# Altium footprint library 5A_BRULA,Tomas.PcbLib: 94 footprints (part 4 of 6)
Each footprint in its own frame and in the unit in brackets; x right, y up, seen from the top. Pads: shape width x height; smd on the part's side, far side on the other; paste and mask are expansions set on the pad; w line width, h text height; cw(c..) or ccw(c..) is an arc to the next point about the centre after c.
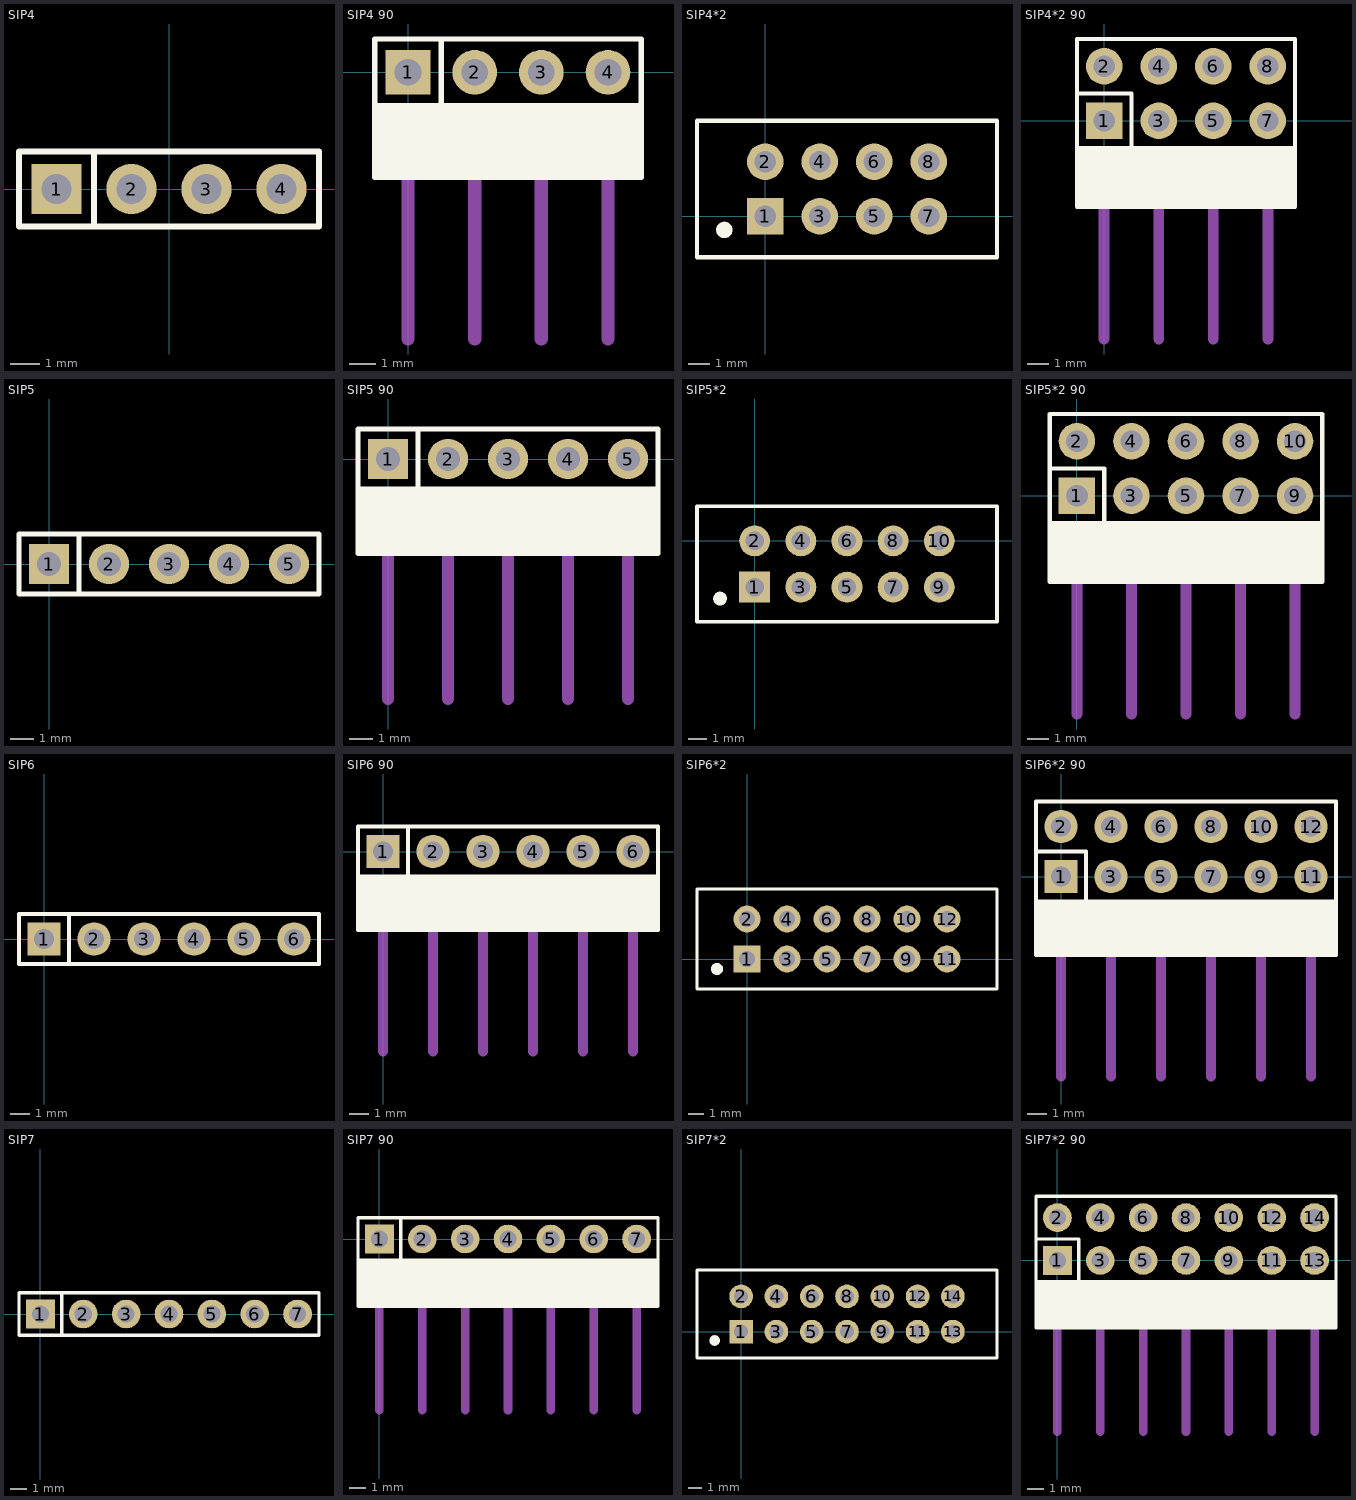
[diagram p3: the footprints below, top view; thin cyan lines are the x and y axes]

## SIP4 [mm]
pads (4):
  rect 1.7x1.7 hole 1.016: 1(-3.81,0)
  round 1.7 hole 1.016: 2(-1.27,0) 3(1.27,0) 4(3.81,0)
Top Overlay:
  lines w0.2: -2.54,-1.27 -2.54,1.27 ; -5.08,-1.27 5.08,-1.27 5.08,1.27 -5.08,1.27 -5.08,-1.27
3D body "SIP4.step": height 8.38, standoff -2.54, extent -5.08,-1.27 5.08,1.27

## SIP4 90 [mm]
pads (4):
  rect 1.7x1.7 hole 1.016: 1(0,0)
  round 1.7 hole 1.016: 2(2.54,0) 3(5.08,0) 4(7.62,0)
Top Overlay:
  rectangle: 6.35,-4 8.89,-1.27
  rectangle: 3.81,-4 6.35,-1.27
  rectangle: 1.27,-4 3.81,-1.27
  rectangle: -1.27,-4 1.27,-1.27
  lines w0.2: 1.27,1.27 1.27,-1.27 ; -1.27,-1.27 -1.27,-4 1.27,-4 ; -1.27,-1.27 -1.27,1.27 8.89,1.27 8.89,-1.27 ; -1.27,-1.27 8.89,-1.27 ; 1.27,-4 3.81,-4 ; 1.27,-4 1.27,-1.27 ; 1.27,-4 1.27,-1.27 ; 3.81,-4 6.35,-4 ; 3.81,-4 3.81,-1.27 3.81,-4 ; 6.35,-4 8.89,-4 8.89,-1.27 ; 6.35,-4 6.35,-1.27 6.35,-4
Mechanical 1:
  lines w0.508: 0,-10.16 0,-4.064 ; 2.54,-10.16 2.54,-4.064 ; 5.08,-10.16 5.08,-4.064 ; 7.62,-10.16 7.62,-4.064
3D body "User Library-m0003083.step": height 3.76, standoff -4.72, extent -1.27,-9.938 3.81,0.286
3D body "User Library-m0003083.step": height 3.76, standoff -4.72, extent 3.81,-9.938 8.89,0.286

## SIP4*2 [mm]
pads (8):
  rect 1.7x1.7 hole 1.016: 1(0,0)
  round 1.7 hole 1.016: 2(0,2.54) 3(2.54,0) 4(2.54,2.54) 5(5.08,0) 6(5.08,2.54) 7(7.62,0) 8(7.62,2.54)
Top Overlay:
  circle w0.254: c-1.993,-0.635 r0.125
  circle w0.254: c-1.905,-0.635 r0.254
  lines w0.2: -3.175,-1.905 10.795,-1.905 10.795,4.445 -3.175,4.445 -3.175,-1.905
3D body "SIP3_2.step": height 10.1, standoff -1.5, extent -1.262,-1.295 6.358,3.785
3D body "SIP3_2.step": height 10.1, standoff -1.5, extent 1.278,-1.295 8.898,3.785

## SIP4*2 90 [mm]
pads (8):
  rect 1.7x1.7 hole 1.016: 1(0,0)
  round 1.7 hole 1.016: 2(0,2.54) 3(2.54,0) 4(2.54,2.54) 5(5.08,0) 6(5.08,2.54) 7(7.62,0) 8(7.62,2.54)
Top Overlay:
  rectangle: 6.35,-4 8.89,-1.27
  rectangle: 3.81,-4 6.35,-1.27
  rectangle: 1.27,-4 3.81,-1.27
  rectangle: -1.27,-4 1.27,-1.27
  lines w0.2: -1.27,1.27 1.27,1.27 1.27,-1.27 ; -1.27,-1.27 -1.27,-4 1.27,-4 ; -1.27,-1.27 8.89,-1.27 ; -1.27,-1.27 -1.27,3.81 8.89,3.81 8.89,-1.27 ; 1.27,-4 3.81,-4 ; 1.27,-4 1.27,-1.27 ; 1.27,-4 1.27,-1.27 ; 3.81,-4 6.35,-4 ; 3.81,-4 3.81,-1.27 3.81,-4 ; 6.35,-4 8.89,-4 8.89,-1.27 ; 6.35,-4 6.35,-1.27 6.35,-4
Mechanical 1:
  lines w0.508: 0,-10.16 0,-4.064 ; 2.54,-10.16 2.54,-4.064 ; 5.08,-10.16 5.08,-4.064 ; 7.62,-10.16 7.62,-4.064
3D body "pin_header_awl254-da-g04d.stp": height 5.1, standoff -2.9, extent -1.27,-9.996 3.81,2.884
3D body "pin_header_awl254-da-g04d.stp": height 5.1, standoff -2.9, extent 3.81,-9.996 8.89,2.884

## SIP5 [mm]
pads (5):
  rect 1.7x1.7 hole 1.016: 1(0,0)
  round 1.7 hole 1.016: 2(2.54,0) 3(5.08,0) 4(7.62,0) 5(10.16,0)
Top Overlay:
  lines w0.2: 1.27,-1.27 1.27,1.27 ; -1.27,-1.27 -1.27,1.27 11.43,1.27 11.43,-1.27 -1.27,-1.27
3D body "SIP4.step": height 8.38, standoff -2.54, extent -1.27,-1.27 8.89,1.27
3D body "SIP4.step": height 8.38, standoff -2.54, extent 1.27,-1.27 11.43,1.27

## SIP5 90 [mm]
pads (5):
  rect 1.7x1.7 hole 1.016: 1(0,0)
  round 1.7 hole 1.016: 2(2.54,0) 3(5.08,0) 4(7.62,0) 5(10.16,0)
Top Overlay:
  rectangle: -1.27,-4 1.27,-1.27
  rectangle: 1.27,-4 3.81,-1.27
  rectangle: 3.81,-4 6.35,-1.27
  rectangle: 6.35,-4 8.89,-1.27
  rectangle: 8.89,-4 11.43,-1.27
  lines w0.2: 1.27,1.27 1.27,-1.27 ; -1.27,-1.27 -1.27,1.27 11.43,1.27 11.43,-1.27 ; -1.27,-1.27 11.43,-1.27 ; -1.27,-1.27 -1.27,-4 1.27,-4 ; 1.27,-4 1.27,-1.27 ; 1.27,-4 1.27,-1.27 ; 1.27,-4 3.81,-4 ; 3.81,-4 3.81,-1.27 3.81,-4 ; 3.81,-4 6.35,-4 ; 6.35,-4 6.35,-1.27 6.35,-4 ; 6.35,-4 8.89,-4 ; 8.89,-4 8.89,-1.27 8.89,-4 ; 8.89,-4 11.43,-4 11.43,-1.27
Mechanical 1:
  lines w0.508: 0,-10.16 0,-4.064 ; 2.54,-10.16 2.54,-4.064 ; 5.08,-10.16 5.08,-4.064 ; 7.62,-10.16 7.62,-4.064 ; 10.16,-10.16 10.16,-4.064
3D body "User Library-m0003083.step": height 3.76, standoff -4.72, extent -1.27,-9.938 3.81,0.286
3D body "User Library-m0003083.step": height 3.76, standoff -4.72, extent 3.81,-9.938 8.89,0.286
3D body "User Library-m0003083.step": height 3.76, standoff -4.72, extent 6.35,-9.938 11.43,0.286

## SIP5*2 [mm]
pads (10):
  rect 1.7x1.7 hole 1.016: 1(0,-2.54)
  round 1.7 hole 1.016: 2(0,0) 3(2.54,-2.54) 4(2.54,0) 5(5.08,-2.54) 6(5.08,0) 7(7.62,-2.54) 8(7.62,0) 9(10.16,-2.54) 10(10.16,0)
Top Overlay:
  circle w0.254: c-1.905,-3.175 r0.254
  circle w0.254: c-1.993,-3.175 r0.125
  lines w0.2: -3.175,-4.445 -3.175,1.905 13.335,1.905 13.335,-4.445 -3.175,-4.445
3D body "SIP3_2.step": height 10.1, standoff -1.5, extent 3.818,-3.835 11.438,1.245
3D body "SIP3_2.step": height 10.1, standoff -1.5, extent -1.262,-3.835 6.358,1.245

## SIP5*2 90 [mm]
pads (10):
  rect 1.7x1.7 hole 1.016: 1(0,0)
  round 1.7 hole 1.016: 2(0,2.54) 3(2.54,0) 4(2.54,2.54) 5(5.08,0) 6(5.08,2.54) 7(7.62,0) 8(7.62,2.54) 9(10.16,0) 10(10.16,2.54)
Top Overlay:
  rectangle: 8.89,-4 11.43,-1.27
  rectangle: 6.35,-4 8.89,-1.27
  rectangle: 3.81,-4 6.35,-1.27
  rectangle: 1.27,-4 3.81,-1.27
  rectangle: -1.27,-4 1.27,-1.27
  lines w0.2: -1.27,1.27 1.27,1.27 1.27,-1.27 ; -1.27,-1.27 -1.27,-4 1.27,-4 ; -1.27,-1.27 -1.27,3.81 11.43,3.81 11.43,-1.27 ; -1.27,-1.27 11.43,-1.27 ; 1.27,-4 3.81,-4 ; 1.27,-4 1.27,-1.27 ; 1.27,-4 1.27,-1.27 ; 3.81,-4 6.35,-4 ; 3.81,-4 3.81,-1.27 3.81,-4 ; 6.35,-4 8.89,-4 ; 6.35,-4 6.35,-1.27 6.35,-4 ; 8.89,-4 11.43,-4 11.43,-1.27 ; 8.89,-4 8.89,-1.27 8.89,-4
Mechanical 1:
  lines w0.508: 0,-10.16 0,-4.064 ; 2.54,-10.16 2.54,-4.064 ; 5.08,-10.16 5.08,-4.064 ; 7.62,-10.16 7.62,-4.064 ; 10.16,-10.16 10.16,-4.064
3D body "pin_header_awl254-da-g04d.stp": height 5.1, standoff -2.9, extent -1.27,-10.086 3.81,2.794
3D body "pin_header_awl254-da-g06d.stp": height 5.1, standoff -2.9, extent 3.81,-10.086 11.43,2.794

## SIP6 [mm]
pads (6):
  rect 1.7x1.7 hole 1.016: 1(0,0)
  round 1.7 hole 1.016: 2(2.54,0) 3(5.08,0) 4(7.62,0) 5(10.16,0) 6(12.7,0)
Top Overlay:
  lines w0.2: 1.27,-1.27 1.27,1.27 ; -1.27,-1.27 -1.27,1.27 13.97,1.27 13.97,-1.27 -1.27,-1.27
3D body "SIP3.step": height 8.38, standoff -2.54, extent -1.27,-1.295 6.35,1.245
3D body "SIP3.step": height 8.38, standoff -2.54, extent 6.35,-1.295 13.97,1.245

## SIP6 90 [mm]
pads (6):
  rect 1.7x1.7 hole 1.016: 1(0,0)
  round 1.7 hole 1.016: 2(2.54,0) 3(5.08,0) 4(7.62,0) 5(10.16,0) 6(12.7,0)
Top Overlay:
  rectangle: 11.43,-4 13.97,-1.27
  rectangle: 8.89,-4 11.43,-1.27
  rectangle: 6.35,-4 8.89,-1.27
  rectangle: 3.81,-4 6.35,-1.27
  rectangle: 1.27,-4 3.81,-1.27
  rectangle: -1.27,-4 1.27,-1.27
  lines w0.2: 1.27,1.27 1.27,-1.27 ; -1.27,-1.27 -1.27,-4 1.27,-4 ; -1.27,-1.27 -1.27,1.27 13.97,1.27 13.97,-1.27 ; -1.27,-1.27 13.97,-1.27 ; 1.27,-4 3.81,-4 ; 1.27,-4 1.27,-1.27 ; 1.27,-4 1.27,-1.27 ; 3.81,-4 6.35,-4 ; 3.81,-4 3.81,-1.27 3.81,-4 ; 6.35,-4 8.89,-4 ; 6.35,-4 6.35,-1.27 6.35,-4 ; 8.89,-4 11.43,-4 ; 8.89,-4 8.89,-1.27 8.89,-4 ; 11.43,-4 13.97,-4 13.97,-1.27 ; 11.43,-4 11.43,-1.27 11.43,-4
Mechanical 1:
  lines w0.508: 0,-10.16 0,-4.064 ; 2.54,-10.16 2.54,-4.064 ; 5.08,-10.16 5.08,-4.064 ; 7.62,-10.16 7.62,-4.064 ; 10.16,-10.16 10.16,-4.064 ; 12.7,-10.16 12.7,-4.064
3D body "User Library-m0003083.step": height 3.76, standoff -4.72, extent 8.89,-9.938 13.97,0.286
3D body "User Library-m0003083.step": height 3.76, standoff -4.72, extent 3.81,-9.938 8.89,0.286
3D body "User Library-m0003083.step": height 3.76, standoff -4.72, extent -1.27,-9.938 3.81,0.286

## SIP6*2 [mm]
pads (12):
  rect 1.7x1.7 hole 1.016: 1(0,0)
  round 1.7 hole 1.016: 2(0,2.54) 3(2.54,0) 4(2.54,2.54) 5(5.08,0) 6(5.08,2.54) 7(7.62,0) 8(7.62,2.54) 9(10.16,0) 10(10.16,2.54) 11(12.7,0) 12(12.7,2.54)
Top Overlay:
  circle w0.254: c-1.993,-0.635 r0.125
  circle w0.254: c-1.905,-0.635 r0.254
  lines w0.2: -3.175,-1.905 -3.175,4.445 15.875,4.445 15.875,-1.905 -3.175,-1.905
3D body "SIP3_2.step": height 10.1, standoff -1.5, extent -1.262,-1.295 6.358,3.785
3D body "SIP3_2.step": height 10.1, standoff -1.5, extent 6.358,-1.295 13.978,3.785

## SIP6*2 90 [mm]
pads (12):
  rect 1.7x1.7 hole 1.016: 1(0,0)
  round 1.7 hole 1.016: 2(0,2.54) 3(2.54,0) 4(2.54,2.54) 5(5.08,0) 6(5.08,2.54) 7(7.62,0) 8(7.62,2.54) 9(10.16,0) 10(10.16,2.54) 11(12.7,0) 12(12.7,2.54)
Top Overlay:
  rectangle: -1.27,-4 1.27,-1.27
  rectangle: 1.27,-4 3.81,-1.27
  rectangle: 3.81,-4 6.35,-1.27
  rectangle: 6.35,-4 8.89,-1.27
  rectangle: 8.89,-4 11.43,-1.27
  rectangle: 11.43,-4 13.97,-1.27
  lines w0.2: -1.27,1.27 1.27,1.27 1.27,-1.27 ; -1.27,-1.27 13.97,-1.27 ; -1.27,-1.27 -1.27,3.81 13.97,3.81 13.97,-1.27 ; -1.27,-1.27 -1.27,-4 1.27,-4 ; 1.27,-4 1.27,-1.27 ; 1.27,-4 1.27,-1.27 ; 1.27,-4 3.81,-4 ; 3.81,-4 3.81,-1.27 3.81,-4 ; 3.81,-4 6.35,-4 ; 6.35,-4 6.35,-1.27 6.35,-4 ; 6.35,-4 8.89,-4 ; 8.89,-4 8.89,-1.27 8.89,-4 ; 8.89,-4 11.43,-4 ; 11.43,-4 11.43,-1.27 11.43,-4 ; 11.43,-4 13.97,-4 13.97,-1.27
Mechanical 1:
  lines w0.508: 0,-10.16 0,-4.064 ; 2.54,-10.16 2.54,-4.064 ; 5.08,-10.16 5.08,-4.064 ; 7.62,-10.16 7.62,-4.064 ; 10.16,-10.16 10.16,-4.064 ; 12.7,-10.16 12.7,-4.064
3D body "pin_header_awl254-da-g06d.stp": height 5.1, standoff -2.9, extent -1.27,-10.086 6.35,2.794
3D body "pin_header_awl254-da-g06d.stp": height 5.1, standoff -2.9, extent 6.35,-10.086 13.97,2.794

## SIP7 [mm]
pads (7):
  rect 1.7x1.7 hole 1.016: 1(0,0)
  round 1.7 hole 1.016: 2(2.54,0) 3(5.08,0) 4(7.62,0) 5(10.16,0) 6(12.7,0) 7(15.24,0)
Top Overlay:
  lines w0.2: 1.27,-1.27 1.27,1.27 ; -1.27,-1.27 -1.27,1.27 16.51,1.27 16.51,-1.27 -1.27,-1.27
3D body "SIP3.step": height 8.38, standoff -2.54, extent 8.89,-1.295 16.51,1.245
3D body "SIP4.step": height 8.38, standoff -2.54, extent -1.27,-1.27 8.89,1.27

## SIP7 90 [mm]
pads (7):
  rect 1.7x1.7 hole 1.016: 1(0,0)
  round 1.7 hole 1.016: 2(2.54,0) 3(5.08,0) 4(7.62,0) 5(10.16,0) 6(12.7,0) 7(15.24,0)
Top Overlay:
  rectangle: -1.27,-4 1.27,-1.27
  rectangle: 1.27,-4 3.81,-1.27
  rectangle: 3.81,-4 6.35,-1.27
  rectangle: 6.35,-4 8.89,-1.27
  rectangle: 8.89,-4 11.43,-1.27
  rectangle: 11.43,-4 13.97,-1.27
  rectangle: 13.97,-4 16.51,-1.27
  lines w0.2: 1.27,1.27 1.27,-1.27 ; -1.27,-1.27 16.51,-1.27 ; -1.27,-1.27 -1.27,1.27 16.51,1.27 16.51,-1.27 ; -1.27,-1.27 -1.27,-4 1.27,-4 ; 1.27,-4 1.27,-1.27 ; 1.27,-4 1.27,-1.27 ; 1.27,-4 3.81,-4 ; 3.81,-4 3.81,-1.27 3.81,-4 ; 3.81,-4 6.35,-4 ; 6.35,-4 6.35,-1.27 6.35,-4 ; 6.35,-4 8.89,-4 ; 8.89,-4 8.89,-1.27 8.89,-4 ; 8.89,-4 11.43,-4 ; 11.43,-4 11.43,-1.27 11.43,-4 ; 11.43,-4 13.97,-4 ; 13.97,-4 13.97,-1.27 13.97,-4 ; 13.97,-4 16.51,-4 16.51,-1.27
Mechanical 1:
  lines w0.508: 0,-10.16 0,-4.064 ; 2.54,-10.16 2.54,-4.064 ; 5.08,-10.16 5.08,-4.064 ; 7.62,-10.16 7.62,-4.064 ; 10.16,-10.16 10.16,-4.064 ; 12.7,-10.16 12.7,-4.064 ; 15.24,-10.16 15.24,-4.064
3D body "User Library-m0003083.step": height 3.76, standoff -4.72, extent -1.27,-9.938 3.81,0.286
3D body "User Library-m0003083.step": height 3.76, standoff -4.72, extent 3.81,-9.938 8.89,0.286
3D body "User Library-m0003083.step": height 3.76, standoff -4.72, extent 8.89,-9.938 13.97,0.286
3D body "User Library-m0003083.step": height 3.76, standoff -4.72, extent 11.43,-9.938 16.51,0.286

## SIP7*2 [mm]
pads (14):
  rect 1.7x1.7 hole 1.016: 1(0,0)
  round 1.7 hole 1.016: 2(0,2.54) 3(2.54,0) 4(2.54,2.54) 5(5.08,0) 6(5.08,2.54) 7(7.62,0) 8(7.62,2.54) 9(10.16,0) 10(10.16,2.54) 11(12.7,0) 12(12.7,2.54) 13(15.24,0) 14(15.24,2.54)
Top Overlay:
  circle w0.254: c-1.993,-0.635 r0.125
  circle w0.254: c-1.905,-0.635 r0.254
  lines w0.2: -3.175,-1.905 18.415,-1.905 18.415,4.445 -3.175,4.445 -3.175,-1.905
3D body "SIP3_2.step": height 10.1, standoff -1.5, extent 8.898,-1.295 16.518,3.785
3D body "SIP3_2.step": height 10.1, standoff -1.5, extent 3.818,-1.295 11.438,3.785
3D body "SIP3_2.step": height 10.1, standoff -1.5, extent -1.262,-1.295 6.358,3.785

## SIP7*2 90 [mm]
pads (14):
  rect 1.7x1.7 hole 1.016: 1(0,0)
  round 1.7 hole 1.016: 2(0,2.54) 3(2.54,0) 4(2.54,2.54) 5(5.08,0) 6(5.08,2.54) 7(7.62,0) 8(7.62,2.54) 9(10.16,0) 10(10.16,2.54) 11(12.7,0) 12(12.7,2.54) 13(15.24,0) 14(15.24,2.54)
Top Overlay:
  rectangle: -1.27,-4 1.27,-1.27
  rectangle: 1.27,-4 3.81,-1.27
  rectangle: 3.81,-4 6.35,-1.27
  rectangle: 6.35,-4 8.89,-1.27
  rectangle: 8.89,-4 11.43,-1.27
  rectangle: 11.43,-4 13.97,-1.27
  rectangle: 13.97,-4 16.51,-1.27
  lines w0.2: -1.27,1.27 1.27,1.27 1.27,-1.27 ; -1.27,-1.27 16.51,-1.27 ; -1.27,-1.27 -1.27,3.81 16.51,3.81 16.51,-1.27 ; -1.27,-1.27 -1.27,-4 1.27,-4 ; 1.27,-4 1.27,-1.27 ; 1.27,-4 1.27,-1.27 ; 1.27,-4 3.81,-4 ; 3.81,-4 3.81,-1.27 3.81,-4 ; 3.81,-4 6.35,-4 ; 6.35,-4 6.35,-1.27 6.35,-4 ; 6.35,-4 8.89,-4 ; 8.89,-4 8.89,-1.27 8.89,-4 ; 8.89,-4 11.43,-4 ; 11.43,-4 11.43,-1.27 11.43,-4 ; 11.43,-4 13.97,-4 ; 13.97,-4 13.97,-1.27 13.97,-4 ; 13.97,-4 16.51,-4 16.51,-1.27
Mechanical 1:
  lines w0.508: 0,-10.16 0,-4.064 ; 2.54,-10.16 2.54,-4.064 ; 5.08,-10.16 5.08,-4.064 ; 7.62,-10.16 7.62,-4.064 ; 10.16,-10.16 10.16,-4.064 ; 12.7,-10.16 12.7,-4.064 ; 15.24,-10.16 15.24,-4.064
3D body "pin_header_awl254-da-g06d.stp": height 5.1, standoff -2.9, extent 3.81,-10.086 11.43,2.794
3D body "pin_header_awl254-da-g04d.stp": height 5.1, standoff -2.9, extent -1.27,-10.086 3.81,2.794
3D body "pin_header_awl254-da-g04d.stp": height 5.1, standoff -2.9, extent 11.43,-10.086 16.51,2.794